# Altium schematic symbol library 34AA04T-IMUY.SchLib: 1 symbol
Pins are listed as number, name and electrical type; pins without a type are passive.

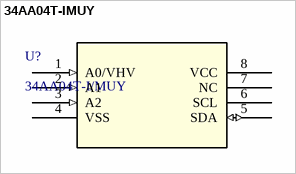
[diagram p0: symbol 34AA04T-IMUY]

## 34AA04T-IMUY
designator U?, comment 34AA04T-I/MUY
No Description Available; Manufacturer_Name: Microchip; Copyright: Copyright (C) 2026 Ultra Librarian. All rights reserved.; Manufacturer_Part_Number: 34AA04T-I/MUY; RefDes: RefDes; Type: Type
footprint UDFN8_2x3MC_MCH
pins: 1 A0/VHV (in), 2 A1 (in), 3 A2 (in), 4 VSS (power), 5 SDA (io), 6 SCL, 7 NC, 8 VCC (power)